# Altium schematic symbol library xfmr_0.Schlib: 1 symbol
Pins are listed as number, name and electrical type; pins without a type are passive.

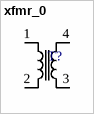
[diagram p0: symbol xfmr_0]

## xfmr_0
designator T?  (value not drawn)
Transformer, 4 terminal
pins: 1, 2, 3, 4